# EAGLE library part MCP41050-I/P (library pedals-potentiometers)
Digital Potentiometer
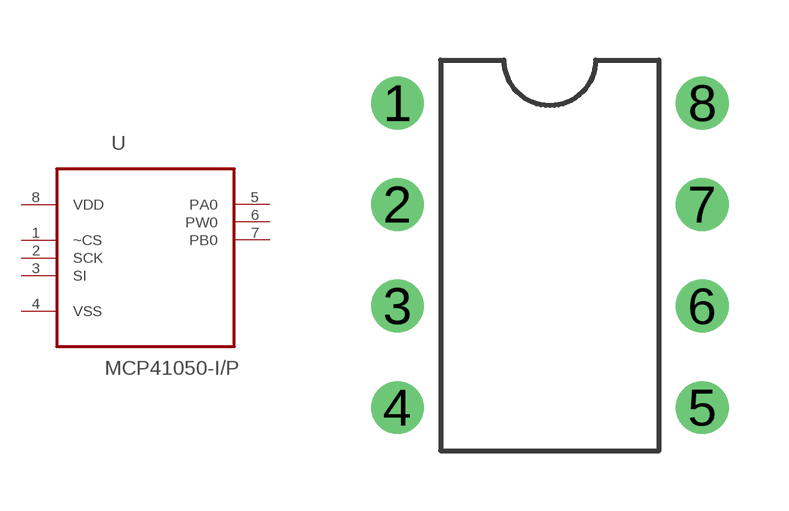
[diagram p1: symbol with the pads of DIP254P762X432-8; footprint DIP254P762X432-8]

Designator prefix -

## MCP41050-I/P (MPN: MCP41050-I/P; OC_FARNELL: 1292243; OC_NEWARK: 59K0227; PACKAGE: DIP-8; SUPPLIER: Microchip)  [DIP254P762X432-8]
1  ~CS  in
2  SCK  in
3  SI  in
4  VSS  pas
5  PA0  pas
6  PW0  pas
7  PB0  pas
8  VDD  pwr

## Footprint DIP254P762X432-8 (pad centres in mm)
drill 0.813 pad 1.27: 1 -7.62,7.62; 2 -7.62,5.08; 3 -7.62,2.54; 4 -7.62,0; 5 0,0; 6 0,2.54; 7 0,5.08; 8 0,7.62